# Altium integrated library AKM.IntLib: 2 symbols
Pins are listed as number, name and electrical type; pins without a type are passive.

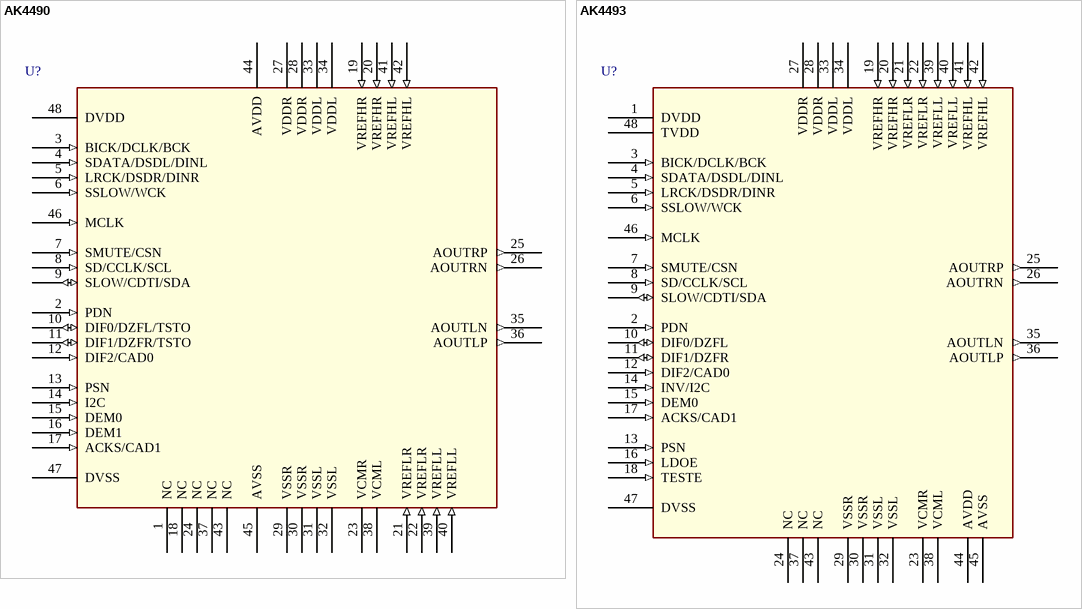
[diagram p0: symbols AK4490 to AK4493]

## AK4490
designator U?
120dB 768kHz / 32-bit 2 ch Premium DAC; Manufacturer: AKM
footprint LQFP-48
pins: 1 NC, 2 PDN (in), 3 BICK/DCLK/BCK (in), 4 SDATA/DSDL/DINL (in), 5 LRCK/DSDR/DINR (in), 6 SSLOW/WCK (in), 7 SMUTE/CSN (in), 8 SD/CCLK/SCL (in), 9 SLOW/CDTI/SDA (io), 10 DIF0/DZFL/TSTO (io), 11 DIF1/DZFR/TSTO (io), 12 DIF2/CAD0 (in), 13 PSN (in), 14 I2C (in), 15 DEM0 (in), 16 DEM1 (in), 17 ACKS/CAD1 (in), 18 NC, 19 VREFHR (in), 20 VREFHR (in), 21 VREFLR (in), 22 VREFLR (in), 23 VCMR, 24 NC, 25 AOUTRP (out), 26 AOUTRN (out), 27 VDDR (power), 28 VDDR (power), 29 VSSR, 30 VSSR, 31 VSSL, 32 VSSL, 33 VDDL (power), 34 VDDL (power), 35 AOUTLN (out), 36 AOUTLP (out), 37 NC, 38 VCML, 39 VREFLL (in), 40 VREFLL (in), 41 VREFHL (in), 42 VREFHL (in), 43 NC, 44 AVDD (power), 45 AVSS, 46 MCLK (in), 47 DVSS, 48 DVDD (power)

## AK4493
designator U?
123dB 768kHz / 32-bit 2 ch Premium DAC; Manufacturer: AKM
footprint LQFP-48
pins: 1 DVDD (power), 2 PDN (in), 3 BICK/DCLK/BCK (in), 4 SDATA/DSDL/DINL (in), 5 LRCK/DSDR/DINR (in), 6 SSLOW/WCK (in), 7 SMUTE/CSN (in), 8 SD/CCLK/SCL (in), 9 SLOW/CDTI/SDA (io), 10 DIF0/DZFL (io), 11 DIF1/DZFR (io), 12 DIF2/CAD0 (in), 13 PSN (in), 14 INV/I2C (in), 15 DEM0 (in), 16 LDOE (in), 17 ACKS/CAD1 (in), 18 TESTE (in), 19 VREFHR (in), 20 VREFHR (in), 21 VREFLR (in), 22 VREFLR (in), 23 VCMR, 24 NC, 25 AOUTRP (out), 26 AOUTRN (out), 27 VDDR (power), 28 VDDR (power), 29 VSSR, 30 VSSR, 31 VSSL, 32 VSSL, 33 VDDL (power), 34 VDDL (power), 35 AOUTLN (out), 36 AOUTLP (out), 37 NC, 38 VCML, 39 VREFLL (in), 40 VREFLL (in), 41 VREFHL (in), 42 VREFHL (in), 43 NC, 44 AVDD (power), 45 AVSS, 46 MCLK (in), 47 DVSS, 48 TVDD (power)